# EAGLE library part TS5A3359DCUR (library boardLib)
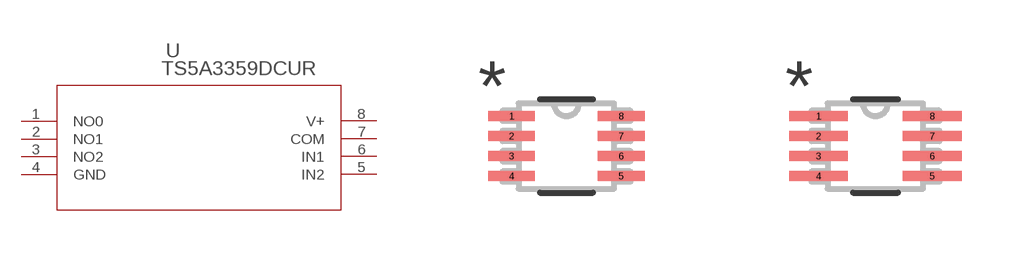
[diagram p0: symbol with the pads of DCU8; footprints DCU8, DCU8-M]

Designator prefix U

## TS5A3359DCUR (MANUFACTURER_PART_NUMBER: TS5A3359DCUR; VENDOR: Texas Instruments)  [DCU8]
1  NO0  out
2  NO1  out
3  NO2  out
4  GND  pwr
5  IN2  in
6  IN1  in
7  COM  pas
8  V+  pwr

## TS5A3359DCURDCU8-M (MANUFACTURER_PART_NUMBER: TS5A3359DCUR; VENDOR: Texas Instruments)  [DCU8-M]
Pads as for DCU8

## TS5A3359DCURDCU8-L (MANUFACTURER_PART_NUMBER: TS5A3359DCUR; VENDOR: Texas Instruments)  [DCU8-L]
Pads as for DCU8

## Footprint DCU8 (pad centres in mm)
smd 1.168 x 0.254: 1 -1.372,0.75; 2 -1.372,0.25; 3 -1.372,-0.25; 4 -1.372,-0.75; 5 1.372,-0.75; 6 1.372,-0.25; 7 1.372,0.25; 8 1.372,0.75

## Footprint DCU8-M (pad centres in mm)
smd 1.473 x 0.254: 1 -1.422,0.75; 2 -1.422,0.25; 3 -1.422,-0.25; 4 -1.422,-0.75; 5 1.422,-0.75; 6 1.422,-0.25; 7 1.422,0.25; 8 1.422,0.75

## Footprint DCU8-L (pad centres in mm)
smd 0.864 x 0.254: 1 -1.321,0.75; 2 -1.321,0.25; 3 -1.321,-0.25; 4 -1.321,-0.75; 5 1.321,-0.75; 6 1.321,-0.25; 7 1.321,0.25; 8 1.321,0.75